# Altium footprint library EEE314 PIC32540 Programmer.PcbLib: 21 footprints (part 1 of 2)
Each footprint in its own frame and in the unit in brackets; x right, y up, seen from the top. Pads: shape width x height; smd on the part's side, far side on the other; paste and mask are expansions set on the pad; w line width, h text height; cw(c..) or ccw(c..) is an arc to the next point about the centre after c.
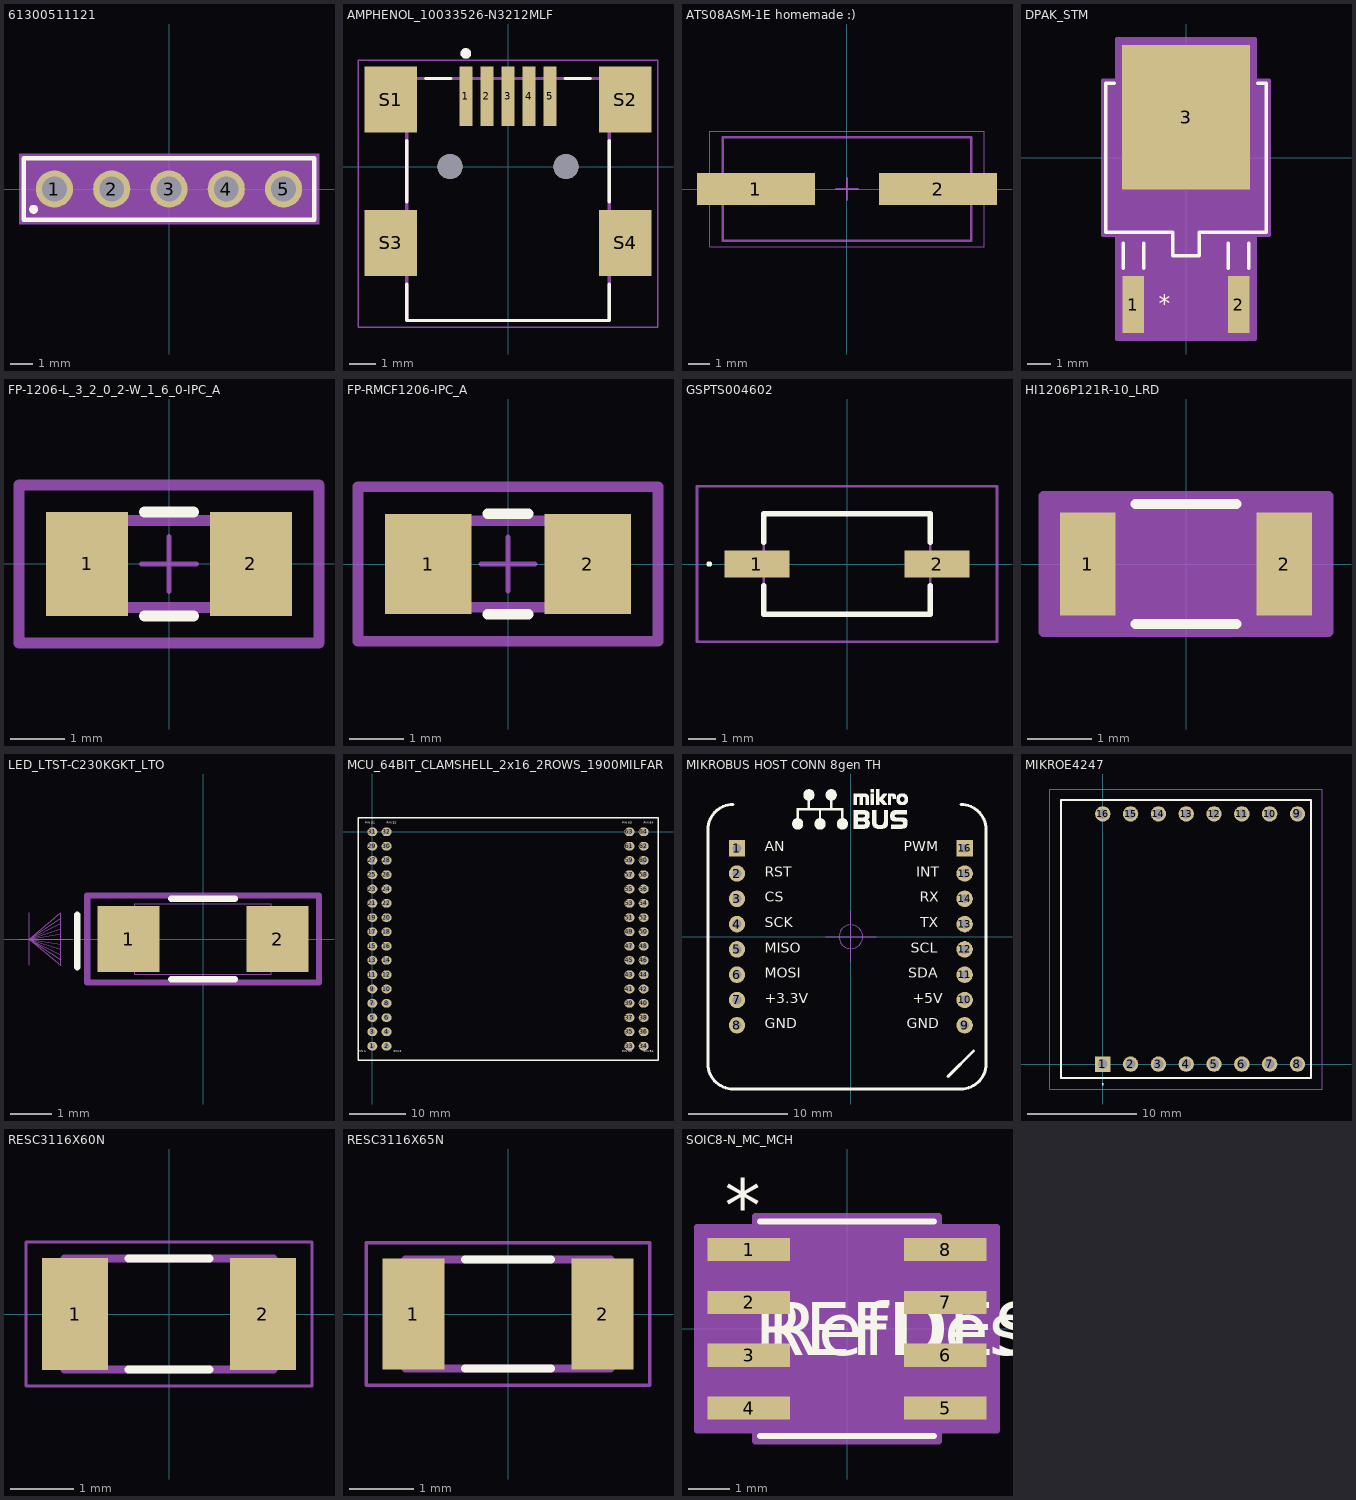
[diagram p0: the footprints below, top view; thin cyan lines are the x and y axes]

## 61300511121 [mm]
pads (5):
  round 1.65 hole 1.1: 1(-5.08,0) 2(-2.54,0) 3(0,0) 4(2.54,0) 5(5.08,0)
Top Overlay:
  circle w0.2: c-6,-0.9 r0.1
  lines w0.2: -6.45,-1.37 6.45,-1.37 6.45,1.37 -6.45,1.37 -6.45,-1.37
Top 3D Body:
  lines w0.1: -6.35,-1.27 -6.35,1.27 6.35,1.27 6.35,-1.27 -6.35,-1.27
Top Courtyard:
  region: 6.65,-1.57 -6.65,-1.57 -6.65,1.57 6.65,1.57
3D body: height 9.53, standoff 0, extent -6.35,-1.27 6.35,1.27

## AMPHENOL_10033526-N3212MLF [mm]
height 3.95
pads (11):
  rect 0.5x2.25 smd mask+0.076: 1(-1.6,2.675) 2(-0.8,2.675) 3(0,2.675) 4(0.8,2.675) 5(1.6,2.675)
  rect 2x2.5 smd: S1(-4.45,2.55) S2(4.45,2.55) S3(-4.45,-2.9) S4(4.45,-2.9)
  round 0.95 hole 0.95 unplated: ""(-2.2,0) ""(2.2,0)
Top Overlay:
  circle w0.2: c-1.6,4.3 r0.1
  lines w0.127: -3.85,-4.47 -3.85,-5.85 3.85,-5.85 3.85,-4.47 ; -3.85,-1.33 -3.85,0.98 ; -3.13,3.35 -2.17,3.35 ; 2.17,3.35 3.13,3.35 ; 3.85,-1.33 3.85,0.98
Top 3D Body:
  circle w0.2: c-1.6,4.3 r0.1
  lines w0.127: -3.85,-5.85 3.85,-5.85 3.85,3.35 -3.85,3.35 -3.85,-5.85
Top Courtyard:
  lines w0.05: -5.7,-6.1 -5.7,4.05 5.7,4.05 5.7,-6.1 -5.7,-6.1
3D body "step_temp.STEP": height 3.95, standoff -0.95, extent -4.95,-5.888 4.95,3.437

## ATS08ASM-1E homemade :) [mm]
height 4.3
pads (2):
  rect 5.5x1.5 smd: 1(-4.25,0) 2(4.25,0)
Top 3D Body:
  lines w0.1: -5.8,-2.415 5.8,-2.415 5.8,2.415 -5.8,2.415 -5.8,-2.415
Top Courtyard:
  lines w0.05: -6.4,-2.7 6.4,-2.7 6.4,2.7 -6.4,2.7 -6.4,-2.7
  lines w0.1: -0.5,0 0.5,0 ; 0,-0.5 0,0.5
3D body: height 0, standoff 0, extent 5.8,-2.415 5.8,2.415
3D body: height 0, standoff 0, extent -5.8,-2.415 -5.8,2.415
3D body: height 4.3, standoff 0, extent -5.8,-2.415 5.8,2.415

## DPAK_STM [mil]
pads (3):
  rect 36.97x97.56 smd paste+0 mask+0: 1(-90,-251.5) 2(90,-251.5)
  rect 219x248 smd paste+0 mask+0: 3(0,69.5)
Top Overlay:
  lines w6: -122.6,127.5 -137.5,127.5 -137.5,-127.5 -22.5,-127.5 -22.5,-167.5 22.5,-167.5 22.5,-127.5 137.5,-127.5 137.5,127.5 122.6,127.5 ; -107.5,-188.72 -107.5,-146.5 ; -72.5,-188.72 -72.5,-146.5 ; 72.5,-188.72 72.5,-146.5 ; 107.5,-188.72 107.5,-146.5
  text "*" at -47,-274 h50
Top 3D Body:
  lines w1: -132.5,-122.5 -132.5,122.5 132.5,122.5 132.5,-122.5 -132.5,-122.5 ; -107.5,-286.5 -72.5,-286.5 -72.5,-122.5 -107.5,-122.5 -107.5,-286.5 ; -17.5,-162.5 17.5,-162.5 17.5,-122.5 -17.5,-122.5 -17.5,-162.5 ; 72.5,-286.5 107.5,-286.5 107.5,-122.5 72.5,-122.5 72.5,-286.5
  text "*" at -102.5,-137.5 h50
Top Courtyard:
  region: -142.5,-132.5 -142.5,132.5 -118.5,132.5 -118.5,203.5 118.5,203.5 118.5,132.5 142.5,132.5 142.5,-132.5 118.48,-132.5 118.48,-310.28 -118.48,-310.28 -118.48,-132.5
  lines w6: -142.5,-132.5 -118.48,-132.5 -118.48,-310.28 118.48,-310.28 118.48,-132.5 142.5,-132.5 142.5,132.5 118.5,132.5 118.5,203.5 -118.5,203.5 -118.5,132.5 -142.5,132.5 -142.5,-132.5
3D body: height 100, standoff 0, extent -110,-55 110,195

## FP-1206-L_3_2_0_2-W_1_6_0-IPC_A [mil]
pads (2):
  rect 59.24x75.05 smd paste+0 mask+0: 1(-59.09,0) 2(59.09,0)
Top Overlay:
  lines w7.87: -17.66,-37.52 17.66,-37.52 ; -17.66,37.52 17.66,37.52
Top Assembly:
  lines w7.87: -108.39,-57.21 -108.39,57.21 108.39,57.21 108.39,-57.21 -108.39,-57.21
  text ".Designator" at 0,9.29 h50
Top 3D Body:
  lines w7.87: -62.99,-31.5 -62.99,31.5 62.99,31.5 62.99,-31.5 -62.99,-31.5
Top Courtyard:
  lines w7.87: -108.39,-57.21 -108.39,57.21 108.39,57.21 108.39,-57.21 -108.39,-57.21
Top Component Center:
  lines w3.94: -19.68,0 19.68,0 ; 0,-19.68 0,19.68
3D body "Cap_AVX_12065A222JAT2A_eec.STEP": height 10, standoff 0, extent -108.39,-57.21 108.39,57.21

## FP-RMCF1206-IPC_A [mil]
pads (2):
  rect 63.14x73.16 smd paste+0 mask+0: 1(-58.09,0) 2(58.09,0)
Top Overlay:
  lines w7.87: -14.71,-36.58 14.71,-36.58 ; -14.71,36.58 14.71,36.58
Top Assembly:
  lines w7.87: -109.35,-56.26 -109.35,56.26 109.35,56.26 109.35,-56.26 -109.35,-56.26
  text ".Designator" at 0,9.29 h50
Top 3D Body:
  lines w7.87: -62.99,-31.5 -62.99,31.5 62.99,31.5 62.99,-31.5 -62.99,-31.5
Top Courtyard:
  lines w7.87: -109.35,-56.26 -109.35,56.26 109.35,56.26 109.35,-56.26 -109.35,-56.26
Top Component Center:
  lines w3.94: -19.68,0 19.68,0 ; 0,-19.68 0,19.68
3D body "Res_Stackpole_Electronics_RMCF1206JT1K00_eec.STEP": height 10, standoff 0, extent -109.35,-56.26 109.35,56.26

## GSPTS004602 [mm]
pads (2):
  rect 2.4x1 smd: 1(-3.3,0) 2(3.3,0)
Top Overlay:
  lines w0.1: -5.1,0 ccw(c-5.05,0) -5,0 ccw(c-5.05,0) -5.1,0
  lines w0.2: -3.05,-0.8 -3.05,-1.85 3.05,-1.85 3.05,-0.8 ; -3.05,0.8 -3.05,1.85 3.05,1.85 3.05,0.8
Top Courtyard:
  lines w0.1: -3.05,-1.85 -3.05,1.85 3.05,1.85 3.05,-1.85 -3.05,-1.85
Bottom Assembly:
  lines w0.1: -5.5,-2.85 -5.5,2.85 5.5,2.85 5.5,-2.85 -5.5,-2.85
3D body "GSPTS004602.stp": height 2.8, standoff 0, extent -4.4,-1.85 4.4,1.85

## HI1206P121R-10_LRD [mil]
pads (2):
  rect 34x63 smd paste+0 mask+0: 1(-60,0) 2(60,0)
Top Overlay:
  lines w6: -30.89,-36.5 30.89,-36.5 ; -30.89,36.5 30.89,36.5
Top 3D Body:
  lines w1: -63,-31.5 -63,31.5 ; -63,-31.5 63,-31.5 ; -63,-31.5 -43,-31.5 -43,31.5 -63,31.5 ; -63,-31.5 -63,31.5 ; -63,31.5 63,31.5 ; 63,-31.5 63,31.5 ; 63,-31.5 63,31.5 ; 63,-31.5 43,-31.5 43,31.5 63,31.5
Top Courtyard:
  region: 87,-41.5 -87,-41.5 -87,41.5 87,41.5
  lines w6: -87,-41.5 87,-41.5 87,41.5 -87,41.5 -87,-41.5
3D body "HI1206P121R-10_LRD.step": height 42.99, standoff 0, extent -62.99,-31.5 62.99,31.5

## LED_LTST-C230KGKT_LTO [mil]
pads (2):
  rect 59x63 smd paste+0 mask+0: 1(-71,0) 2(71,0)
Top Overlay:
  lines w6: -120,-27 -120,23 ; -30.43,-38.5 30.43,-38.5 ; -30.43,38.5 30.43,38.5
Top 3D Body:
  lines w1: -175.5,0 -125.5,0 ; -165.5,-25 -165.5,25 ; -135.5,-20 -165.5,0 ; -135.5,-15 -165.5,0 ; -135.5,-10 -165.5,0 ; -135.5,-5 -165.5,0 ; -135.5,5 -165.5,0 ; -135.5,10 -165.5,0 ; -135.5,15 -165.5,0 ; -135.5,20 -165.5,0 ; -165.5,0 -135.5,-25 -135.5,25 -165.5,0 ; -65,-33.5 -65,33.5 65,33.5 65,-33.5 -65,-33.5
Top Courtyard:
  lines w6: -110.5,-41.5 110.5,-41.5 110.5,41.5 -110.5,41.5 -110.5,-41.5

## MCU_64BIT_CLAMSHELL_2x16_2ROWS_1900MILFAR [mil]
height 250
pads (64):
  oval 70x60 hole 40: 1(0,-1500) 2(100,-1500) 3(0,-1400) 4(100,-1400) 5(0,-1300) 6(100,-1300) 7(0,-1200) 8(100,-1200) 9(0,-1100) 10(100,-1100) 11(0,-1000) 12(100,-1000) 13(0,-900) 14(100,-900) 15(0,-800) 16(100,-800) 17(0,-700) 18(100,-700) 19(0,-600) 20(100,-600) 21(0,-500) 22(100,-500) 23(0,-400) 24(100,-400) 25(0,-300) 26(100,-300) 27(0,-200) 28(100,-200) 29(0,-100) 30(100,-100) 31(0,0) 32(100,0) 33(1800,-1500) 34(1900,-1500) 35(1800,-1400) 36(1900,-1400) 37(1800,-1300) 38(1900,-1300) 39(1800,-1200) 40(1900,-1200) 41(1800,-1100) 42(1900,-1100) 43(1800,-1000) 44(1900,-1000) 45(1800,-900) 46(1900,-900) 47(1800,-800) 48(1900,-800) 49(1800,-700) 50(1900,-700) 51(1800,-600) 52(1900,-600) 53(1800,-500) 54(1900,-500) 55(1800,-400) 56(1900,-400) 57(1800,-300) 58(1900,-300) 59(1800,-200) 60(1900,-200) 61(1800,-100) 62(1900,-100) 63(1800,0) 64(1900,0)
Top Overlay:
  lines w10: -100,-1600 -100,100 2000,100 2000,-1600 -100,-1600
  text "PIN 34" at 1900,-1549.73 h25
  text "PIN 64" at 1900,50.27 h25
  text "PIN 32" at 100,50.27 h25
  text "PIN 63" at 1750,50.27 h25
  text "PIN 33" at 1750,-1549.73 h25
  text "PIN 2" at 150,-1550 h25
  text "PIN 31" at -50,50.27 h25
  text "PIN 1" at -100,-1550 h25
3D body: height 400, standoff 0, extent -50,-1550 150,50
3D body: height 400, standoff 0, extent 1750,-1600 1950,50
3D body: height 1377.95, standoff 400, extent -100,-1600 2000,100

## MIKROBUS HOST CONN 8gen TH [mil]
height 47.24
pads (16):
  rect 65x65 hole 35: 1(-450,350) 16(450,350)
  round 65 hole 35: 2(-450,250) 3(-450,150) 4(-450,50) 5(-450,-50) 6(-450,-150) 7(-450,-250) 8(-450,-350) 9(450,-350) 10(450,-250) 11(450,-150) 12(450,-50) 13(450,50) 14(450,150) 15(450,250)
Top Overlay:
  drawing of 2437 lines, arcs and shapes, not listed
  text "SDA" at 227.55,-176.23 h70
  text "RST" at -340.73,223.77 h70
  text "CS" at -340.73,123.77 h70
  text "MISO" at -340.73,-76.23 h70
  text "SCK" at -340.73,23.77 h70
  text "MOSI" at -340.73,-176.23 h70
  text "+3.3V" at -340.73,-276.23 h70
  text "GND" at -340.73,-376.23 h70
  text "SCL" at 236.75,-76.23 h70
  text "INT" at 259.75,223.77 h70
  text "RX" at 271.94,123.77 h70
  text "TX" at 275.43,23.77 h70
  text "GND" at 221.27,-376.23 h70
  text "+5V" at 244.27,-276.23 h70
  text "AN" at -340.73,323.77 h70
  text "PWM" at 210.05,323.77 h70
Top Courtyard:
  circle w2: c0,0 r46.89
  lines w2: -100,0 100,0 ; 0,-100 0,100
3D body "mikroBUS_TH_Black.stp": height 433.62, standoff -107.77, extent -496.94,-500.66 503.84,400.67

## MIKROE4247 [mm]
pads (16):
  rect 1.4x1.4 hole 0.9: 1(0,0)
  round 1.4 hole 0.9: 2(2.54,0) 3(5.08,0) 4(7.62,0) 5(10.16,0) 6(12.7,0) 7(15.24,0) 8(17.78,0) 9(17.78,22.86) 10(15.24,22.86) 11(12.7,22.86) 12(10.16,22.86) 13(7.62,22.86) 14(5.08,22.86) 15(2.54,22.86) 16(0,22.86)
Top Overlay:
  lines w0.1: 0,-1.9 cw(c0,-1.85) 0,-1.8 cw(c0,-1.85) 0,-1.9
  lines w0.2: -3.83,-1.27 19.03,-1.27 19.03,24.13 -3.83,24.13 -3.83,-1.27
Top Courtyard:
  lines w0.1: -3.83,-1.27 19.03,-1.27 19.03,24.13 -3.83,24.13 -3.83,-1.27
Bottom Assembly:
  lines w0.1: -4.83,-2.27 20.03,-2.27 20.03,25.13 -4.83,25.13 -4.83,-2.27
3D body: height 8.89, standoff 0, extent -3.81,-1.27 19.05,24.13

## PCBComponent_1 - duplicate [mil]

## RESC3116X60N [mm]
pads (2):
  rect 1.05x1.77 smd: 1(-1.485,0) 2(1.485,0)
Top Overlay:
  lines w0.127: -0.64,-0.88 0.64,-0.88 ; -0.64,0.88 0.64,0.88
Top 3D Body:
  lines w0.127: -1.65,-0.88 1.65,-0.88 1.65,0.88 -1.65,0.88 -1.65,-0.88
Top Courtyard:
  lines w0.05: -2.26,-1.135 2.26,-1.135 2.26,1.135 -2.26,1.135 -2.26,-1.135
3D body "step_temp.STEP": height 0.6, standoff 0, extent -1.6,-0.8 1.6,0.8

## RESC3116X65N [mm]
pads (2):
  rect 0.97x1.73 smd: 1(-1.48,0) 2(1.48,0)
Top Overlay:
  lines w0.127: -0.67,-0.85 0.67,-0.85 ; -0.67,0.85 0.67,0.85
Top 3D Body:
  lines w0.127: -1.6,-0.85 -1.6,0.85 1.6,0.85 1.6,-0.85 -1.6,-0.85
Top Courtyard:
  lines w0.05: -2.215,-1.115 -2.215,1.115 2.215,1.115 2.215,-1.115 -2.215,-1.115

## SOIC8-N_MC_MCH [mil]
pads (8):
  rect 78x22 smd paste+0 mask+0: 1(-93,75) 2(-93,25) 3(-93,-25) 4(-93,-75) 5(93,-75) 6(93,-25) 7(93,25) 8(93,75)
Top Overlay:
  lines w6: -82,-101.5 82,-101.5 ; -82,101.5 82,101.5
  text "REFDES" at -87.5,-25 h50
  text "*" at -115.5,92 h50
  text "RefDes" at -75,-25 h50
Top 3D Body:
  lines w0: -12,96.5 ccw(c0,96.5) 12,96.5
  lines w1: -118,-85 -118,-65 -77,-65 -77,-85 -118,-85 ; -118,-35 -118,-15 -77,-15 -77,-35 -118,-35 ; -118,15 -118,35 -77,35 -77,15 -118,15 ; -118,65 -118,85 -77,85 -77,65 -118,65 ; -77,-96.5 77,-96.5 77,96.5 -77,96.5 -77,-96.5 ; 77,-85 77,-65 118,-65 118,-85 77,-85 ; 77,-35 77,-15 118,-15 118,-35 77,-35 ; 77,15 77,35 118,35 118,15 77,15 ; 77,65 77,85 118,85 118,65 77,65
  text "*" at -74.5,43.5 h50
  text "RefDes2" at -87.5,-25 h50
Top Courtyard:
  region: -87,-96 -142,-96 -142,96 -87,96 -87,106.5 87,106.5 87,96 142,96 142,-96 87,-96 87,-106.5 -87,-106.5
  lines w6: -142,-96 -142,96 -87,96 -87,106.5 87,106.5 87,96 142,96 142,-96 87,-96 87,-106.5 -87,-106.5 -87,-96 -142,-96
3D body "SOIC8-N_MC_MCH.step": height 69.09, standoff 0, extent -117.99,-96.5 117.99,96.5